# EAGLE library part SAMTEC_FTSH-107-01-L-DV-K (library GaN_Fet_ESC_V0.2)
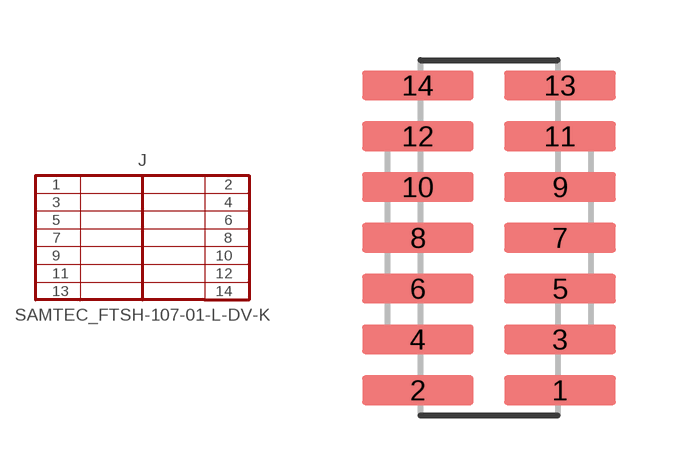
[diagram p6: symbol with the pads of SAMTEC_FTSH-107-01-L-DV-K; footprint SAMTEC_FTSH-107-01-L-DV-K]

Designator prefix J

## SAMTEC_FTSH-107-01-L-DV-K  [SAMTEC_FTSH-107-01-L-DV-K]
1  1
2  2
3  3
4  4
5  5
6  6
7  7
8  8
9  9
10  10
11  11
12  12
13  13
14  14

## Footprint SAMTEC_FTSH-107-01-L-DV-K (pad centres in mm)
smd 2.79 x 0.74: 1 1.778,-3.81; 2 -1.778,-3.81; 3 1.778,-2.54; 4 -1.778,-2.54; 5 1.778,-1.27; 6 -1.778,-1.27; 7 1.778,0; 8 -1.778,0; 9 1.778,1.27; 10 -1.778,1.27; 11 1.778,2.54; 12 -1.778,2.54; 13 1.778,3.81; 14 -1.778,3.81